# EAGLE library part QFN-20-3X3 (library SMD_Qualifier)
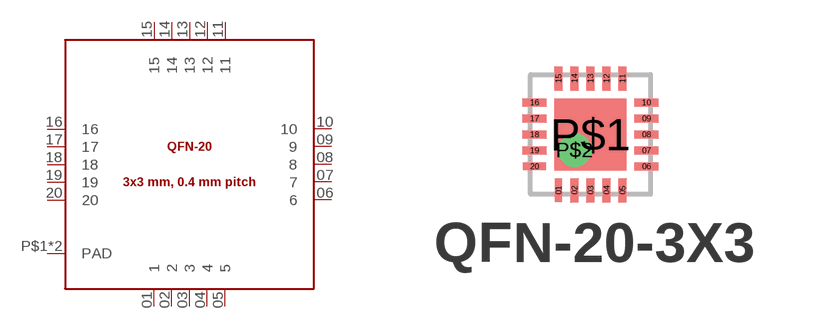
[diagram p7: symbol with the pads of QFN-20-3X3; footprint QFN-20-3X3]

Designator prefix -

## QFN-20-3X3  [QFN-20-3X3]
01  1
02  2
03  3
04  4
05  5
06  6
07  7
08  8
09  9
10  10
11  11
12  12
13  13
14  14
15  15
16  16
17  17
18  18  in
19  19  in
20  20  in
P$1  PAD
P$2  PAD

## Footprint QFN-20-3X3 (pad centres in mm)
smd 0.2 x 0.6: 01 -0.8,-1.4; 02 -0.4,-1.4; 03 0,-1.4; 04 0.4,-1.4; 05 0.8,-1.4; 11 0.8,1.4; 12 0.4,1.4; 13 0,1.4; 14 -0.4,1.4; 15 -0.8,1.4
smd 0.6 x 0.2: 06 1.4,-0.8; 07 1.4,-0.4; 08 1.4,0; 09 1.4,0.4; 10 1.4,0.8; 16 -1.4,0.8; 17 -1.4,0.4; 18 -1.4,0; 19 -1.4,-0.4; 20 -1.4,-0.8
smd 1.8 x 1.8: P$1 0,0
drill 0.33 pad 0.66: P$2 -0.4,-0.4